# Altium footprint library sw.PcbLib: 4 footprints
Each footprint in its own frame and in the unit in brackets; x right, y up, seen from the top. Pads: shape width x height; smd on the part's side, far side on the other; paste and mask are expansions set on the pad; w line width, h text height; cw(c..) or ccw(c..) is an arc to the next point about the centre after c.
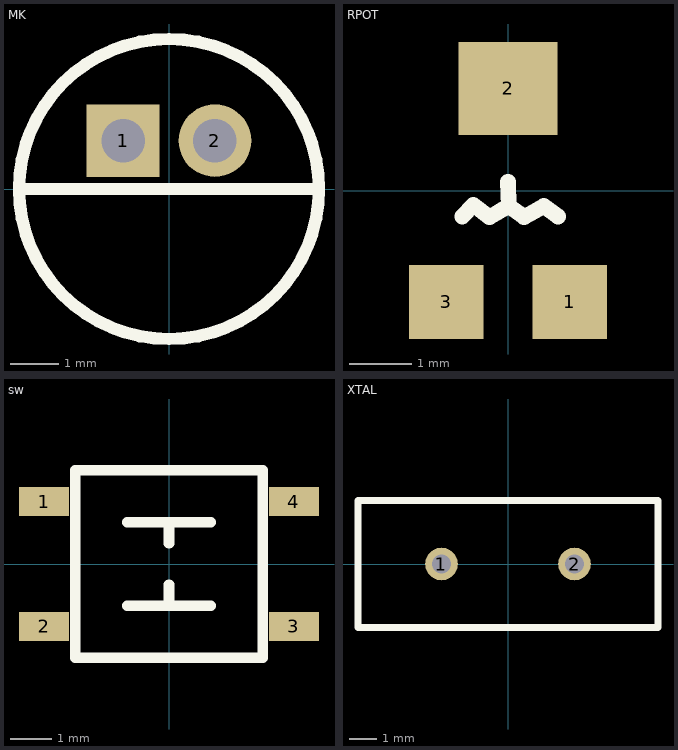
[diagram p0: the footprints below, top view; thin cyan lines are the x and y axes]

## MK [mm]
pads (2):
  rect 1.5x1.5 hole 0.9: 1(-0.95,1)
  round 1.5 hole 0.9: 2(0.95,1)
Top Overlay:
  circle w0.254: c0,0 r3.1
  lines w0.254: -3.1,0 3.1,0

## RPOT [mm]
pads (3):
  rect 1.2x1.2 smd: 1(1,-1.8) 3(-1,-1.8)
  rect 1.6x1.5 smd: 2(0,1.65)
Top Overlay:
  lines w0.254: -0.74,-0.42 -0.56,-0.23 -0.3,-0.43 0.01,-0.25 ; 0,0.14 0.01,-0.25 ; 0.81,-0.42 0.58,-0.25 0.26,-0.43 0.01,-0.25

## sw [mm]
height 2.5
pads (4):
  rect 1.2x0.7 smd: 1(-3,1.5) 2(-3,-1.5) 3(3,-1.5) 4(3,1.5)
Top Overlay:
  lines w0.254: -1,-1 1,-1 ; -1,1 1,1 ; 0,-1 0,-0.5 ; 0,0.5 0,1 ; -2.25,-2.25 -2.25,2.25 2.25,2.25 2.25,-2.25 -2.25,-2.25

## XTAL [mm]
pads (2):
  round 1.2 hole 0.7: 1(-2.44,0) 2(2.44,0)
Top Overlay:
  lines w0.254: -5.503,-2.325 5.503,-2.325 5.503,2.325 -5.503,2.325 -5.503,-2.325